# Altium footprint library CapacitorAluminumElectrolytic.PcbLib: 14 footprints
Each footprint in its own frame and in the unit in brackets; x right, y up, seen from the top. Pads: shape width x height; smd on the part's side, far side on the other; paste and mask are expansions set on the pad; w line width, h text height; cw(c..) or ccw(c..) is an arc to the next point about the centre after c.
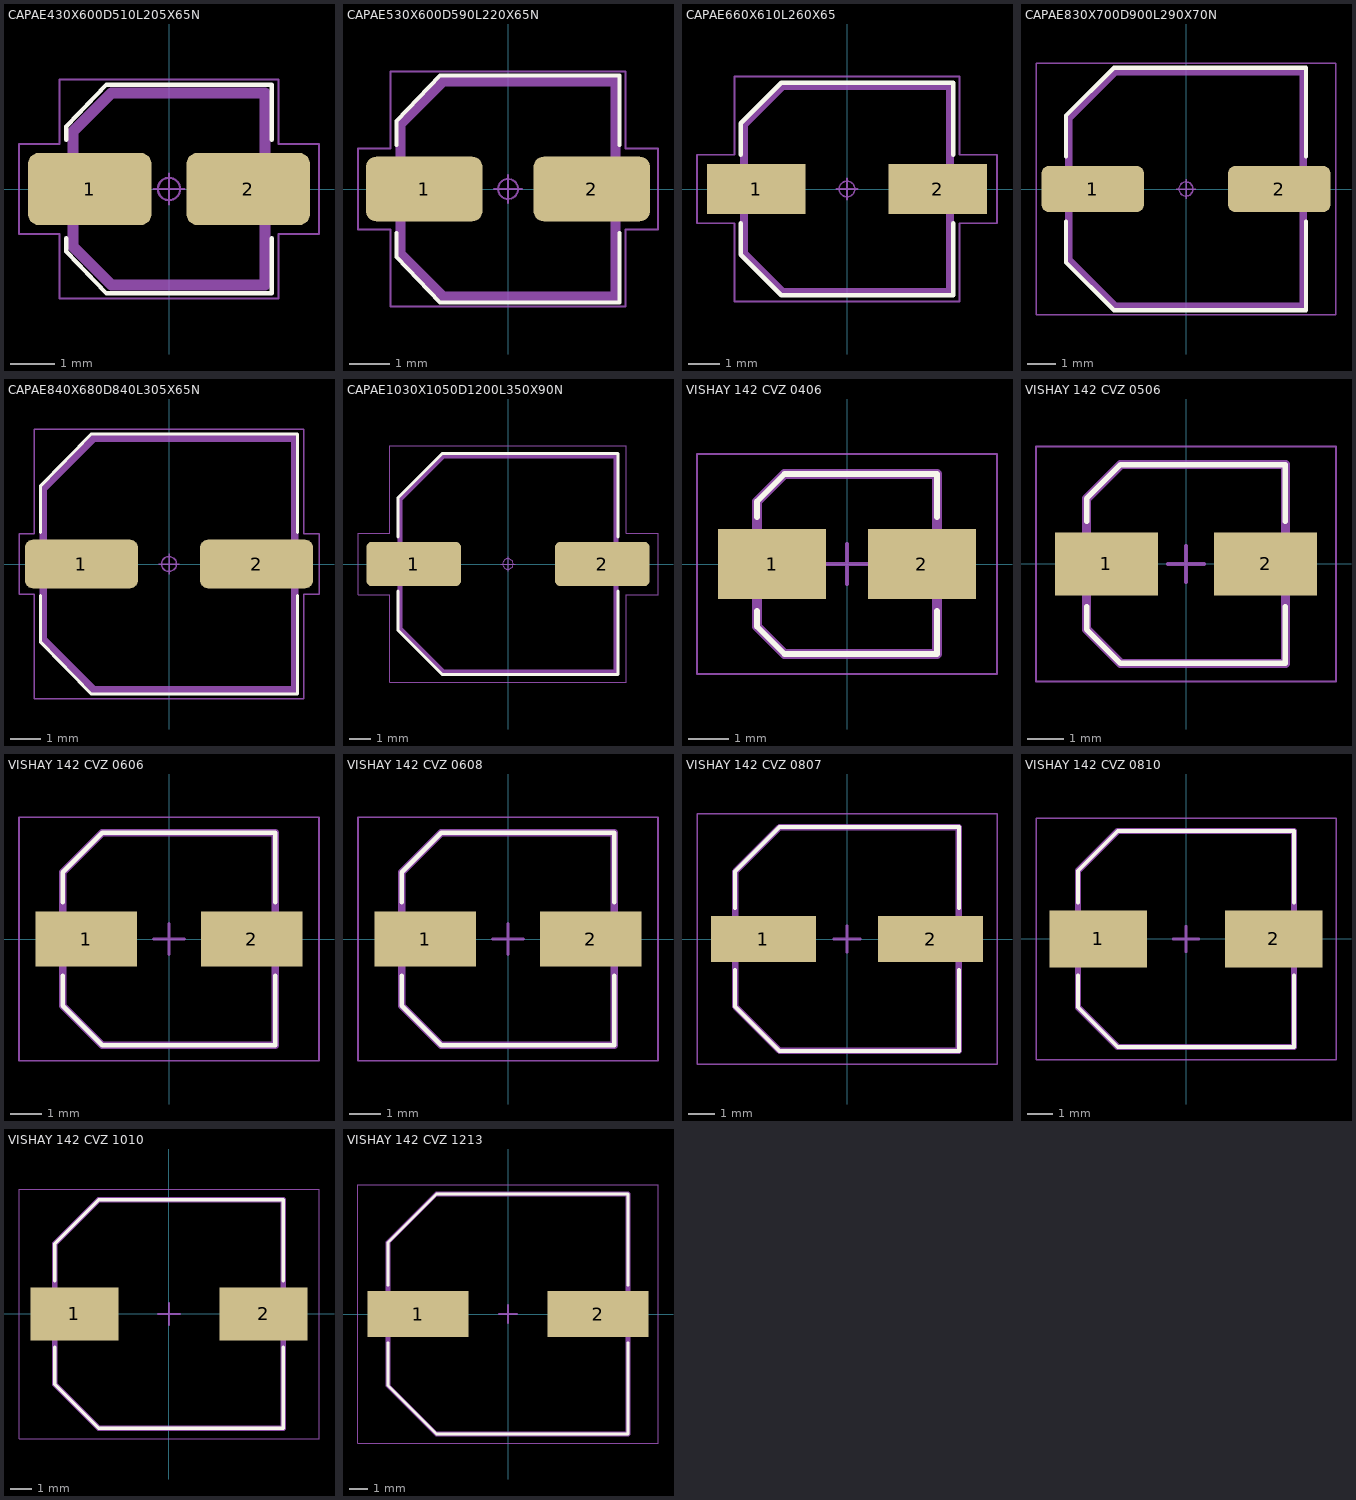
[diagram p0: the footprints below, top view; thin cyan lines are the x and y axes]

## CAPAE430X600D510L205X65N [mm] "Capacitor, Aluminum Electrolytic; 4.30 mm L X 4.30 mm W X 6.00 mm H body"
height 6
pads (2):
  rrect31% 2.77x1.62 smd: 1(-1.775,0) 2(1.775,0)
Top Overlay:
  lines w0.1: -2.3,-1.1 -2.3,-1.4 -1.4,-2.34 2.3,-2.34 2.3,-1.1 ; -2.3,1.1 -2.3,1.4 -1.4,2.34 2.3,2.34 2.3,1.1
Top Assembly:
  lines w0.25: -2.15,-1.29 -1.29,-2.15 2.15,-2.15 2.15,2.15 -1.29,2.15 -2.15,1.29 -2.15,-1.29
  text ".Designator" at -1.746,-0.381 h1.5
Top Courtyard:
  circle w0.05: c0,0 r0.25
  lines w0.05: -0.35,0 0.35,0 ; 0,-0.35 0,0.35 ; -3.36,-1.01 -3.36,1.01 -2.45,1.01 -2.45,2.45 2.45,2.45 2.45,1.01 3.36,1.01 3.36,-1.01 2.45,-1.01 2.45,-2.45 -2.45,-2.45 -2.45,-1.01 -3.36,-1.01
3D body "CAPAE430X600D510L205X65.STEP": height 6, standoff 0, extent -2.55,-2.15 2.55,2.15

## CAPAE530X600D590L220X65N [mm] "Capacitor, Aluminum Electrolytic; 5.30 mm L X 5.30 mm W X 6.00 mm H body"
height 6
pads (2):
  rrect31% 2.92x1.62 smd: 1(-2.1,0) 2(2.1,0)
Top Overlay:
  lines w0.1: -2.8,-1.1 -2.8,-1.7 -1.7,-2.84 2.8,-2.84 2.8,-1.1 ; -2.8,1.1 -2.8,1.7 -1.7,2.84 2.8,2.84 2.8,1.1
Top Assembly:
  lines w0.25: -2.7,-1.62 -1.62,-2.7 2.7,-2.7 2.7,2.7 -1.62,2.7 -2.7,1.62 -2.7,-1.62
  text ".Designator" at -2.54,-0.381 h1.5
Top Courtyard:
  circle w0.05: c0,0 r0.25
  lines w0.05: -0.35,0 0.35,0 ; 0,-0.35 0,0.35 ; -3.76,-1.01 -3.76,1.01 -2.95,1.01 -2.95,2.95 2.95,2.95 2.95,1.01 3.76,1.01 3.76,-1.01 2.95,-1.01 2.95,-2.95 -2.95,-2.95 -2.95,-1.01 -3.76,-1.01
3D body "CAPAE530X600D590L220X65.STEP": height 6, standoff 0, extent -2.95,-2.65 2.95,2.65

## CAPAE660X610L260X65 [mm] "Capacitor, Aluminum Electrolytic; 6.60 mm L X 6.60 mm W X 6.10 mm H body"
height 6.1
pads (2):
  rect 3.15x1.6 smd: 1(-2.9,0) 2(2.9,0)
Top Overlay:
  lines w0.15: -3.4,-1.1 -3.4,-2.1 -2.1,-3.4 3.4,-3.4 3.4,-1.1 ; -3.4,1.1 -3.4,2.1 -2.1,3.4 3.4,3.4 3.4,1.1
Top Assembly:
  lines w0.25: -3.3,-2.05 -3.3,2.05 -2.05,3.3 3.3,3.3 3.3,-3.3 -2.05,-3.3 -3.3,-2.05
  text ".Designator" at -2.8,-0.343 h1.5
Top Courtyard:
  circle w0.05: c0,0 r0.25
  lines w0.05: -0.35,0 0.35,0 ; 0,-0.35 0,0.35 ; -4.8,-1.1 -3.6,-1.1 -3.6,-3.6 3.6,-3.6 3.6,-1.1 4.8,-1.1 4.8,1.1 3.6,1.1 3.6,3.6 -3.6,3.6 -3.6,1.1 -4.8,1.1 -4.8,-1.1
3D body "CAPAE7866X61N.step": height 6.1, standoff -0.2, extent -3.9,-3.3 3.9,3.3

## CAPAE830X700D900L290X70N [mm] "Capacitor, Aluminum Electrolytic; 8.30 mm L X 8.30 mm W X 7.00 mm H body"
height 7
pads (2):
  rrect31% 3.62x1.63 smd: 1(-3.3,0) 2(3.3,0)
Top Overlay:
  lines w0.15: -4.25,-1.15 -4.25,-2.6 -2.55,-4.29 4.25,-4.29 4.25,-1.15 ; -4.25,1.15 -4.25,2.6 -2.55,4.29 4.25,4.29 4.25,1.15
Top Assembly:
  lines w0.25: -4.15,-2.49 -4.15,2.49 -2.49,4.15 4.15,4.15 4.15,-4.15 -2.49,-4.15 -4.15,-2.49
  text ".Designator" at -3.378,-0.339 h1.5
Top Courtyard:
  circle w0.05: c0,0 r0.25
  lines w0.05: -0.35,0 0.35,0 ; 0,-0.35 0,0.35 ; -5.31,-4.45 5.31,-4.45 5.31,4.45 -5.31,4.45 -5.31,-4.45
3D body "CAPAE830X700D900L290X70.STEP": height 7, standoff 0, extent -4.5,-4.15 4.5,4.15

## CAPAE840X680D840L305X65N [mm] "Capacitor, Aluminum Electrolytic; 8.40 mm L X 8.40 mm W X 6.80 mm H body"
height 6.8
pads (2):
  rrect31% 3.77x1.62 smd: 1(-2.925,0) 2(2.925,0)
Top Overlay:
  lines w0.1: -4.3,-1.05 -4.3,-2.6 -2.6,-4.34 4.3,-4.34 4.3,-1.05 ; -4.3,1.05 -4.3,2.6 -2.6,4.34 4.3,4.34 4.3,1.05
Top Assembly:
  lines w0.25: -4.2,-2.52 -4.2,2.52 -2.52,4.2 4.2,4.2 4.2,-4.2 -2.52,-4.2 -4.2,-2.52
  text ".Designator" at -3.175,-0.381 h1.5
Top Courtyard:
  circle w0.05: c0,0 r0.25
  lines w0.05: -0.35,0 0.35,0 ; 0,-0.35 0,0.35 ; -5.01,-1.01 -4.5,-1.01 -4.5,-4.5 4.5,-4.5 4.5,-1.01 5.01,-1.01 5.01,1.01 4.5,1.01 4.5,4.5 -4.5,4.5 -4.5,1.01 -5.01,1.01 -5.01,-1.01
3D body "CAPAE840X680D840L305X65.STEP": height 6.8, standoff 0, extent -4.2,-4.2 4.2,4.2

## CAPAE1030X1050D1200L350X90N [mm] "Capacitor, Aluminum Electrolytic; 10.30 mm L X 10.30 mm W X 10.50 mm H body"
height 10.5
pads (2):
  rrect24% 4.51x2.12 smd: 1(-4.5,0) 2(4.5,0)
Top Overlay:
  lines w0.15: -5.25,-1.3 -5.25,-3.15 -3.15,-5.265 5.25,-5.265 5.25,-1.3 ; -5.25,1.3 -5.25,3.15 -3.15,5.265 5.25,5.265 5.25,1.3
Top Assembly:
  lines w0.25: -5.15,-3.09 -5.15,3.09 -3.09,5.15 5.15,5.15 5.15,-5.15 -3.09,-5.15 -5.15,-3.09
  text ".Designator" at -4.064,-0.508 h2
Top Courtyard:
  circle w0.05: c0,0 r0.25
  lines w0.05: -0.35,0 0.35,0 ; 0,-0.35 0,0.35 ; -7.155,-1.46 -5.65,-1.46 -5.65,-5.65 5.65,-5.65 5.65,-1.46 7.155,-1.46 7.155,1.46 5.65,1.46 5.65,5.65 -5.65,5.65 -5.65,1.46 -7.155,1.46 -7.155,-1.46
3D body "CAPAE1030X1050D1200L350X90.STEP": height 10.5, standoff 0, extent -5.8,-5.15 5.8,5.15

## VISHAY 142 CVZ 0406 [mm] "VISHAY CAPAE 142 CVZ 4x4x5.7"
height 6
pads (2):
  rect 2.7x1.75 smd: 1(-1.875,0) 2(1.875,0)
Top Overlay:
  lines w0.15: -2.25,-1.175 -2.25,-1.563 -1.563,-2.25 2.25,-2.25 2.25,-1.175 ; -2.25,1.175 -2.25,1.562 -1.563,2.25 2.25,2.25 2.25,1.175
Top Assembly:
  lines w0.25: -2.25,-1.563 -2.25,1.562 -1.563,2.25 2.25,2.25 2.25,-2.25 -1.563,-2.25 -2.25,-1.563
  text ".Designator" at -3.378,-0.339 h1.5
Top Courtyard:
  lines w0.05: -3.75,-2.75 3.75,-2.75 3.75,2.75 -3.75,2.75 -3.75,-2.75
  lines w0.1: -0.5,0 0.5,0 ; 0,-0.5 0,0.5
3D body "CAPAE5345X60N.step": height 6, standoff 0, extent -2.65,-2.25 2.65,2.25

## VISHAY 142 CVZ 0506 [mm] "VISHAY CAPAE 142 CVZ 4x5x5.7"
height 6
pads (2):
  rect 2.85x1.75 smd: 1(-2.2,0) 2(2.2,0)
Top Overlay:
  lines w0.15: -2.75,-1.175 -2.75,-1.813 -1.813,-2.75 2.75,-2.75 2.75,-1.175 ; -2.75,1.175 -2.75,1.812 -1.813,2.75 2.75,2.75 2.75,1.175
Top Assembly:
  lines w0.25: -2.75,-1.813 -1.813,-2.75 2.75,-2.75 2.75,2.75 -1.813,2.75 -2.75,1.812 -2.75,-1.813
  text ".Designator" at -3.378,-0.339 h1.5
Top Courtyard:
  lines w0.05: -4.15,-3.25 -4.15,3.25 4.15,3.25 4.15,-3.25 -4.15,-3.25
  lines w0.1: -0.5,0 0.5,0 ; 0,-0.5 0,0.5
3D body "CAPAE6155X60N.step": height 6, standoff 0, extent -3.05,-2.75 3.05,2.75

## VISHAY 142 CVZ 0606 [mm] "VISHAY CAPAE 142 CVZ 6.3x6.3x5.7"
height 6
pads (2):
  rect 3.25x1.75 smd: 1(-2.65,0) 2(2.65,0)
Top Overlay:
  lines w0.15: -3.4,-1.175 -3.4,-2.138 -2.137,-3.4 3.4,-3.4 3.4,-1.175 ; -3.4,1.175 -3.4,2.137 -2.137,3.4 3.4,3.4 3.4,1.175
Top Assembly:
  lines w0.25: -3.4,-2.138 -3.4,2.137 -2.137,3.4 3.4,3.4 3.4,-3.4 -2.137,-3.4 -3.4,-2.138
  text ".Designator" at -3.378,-0.339 h1.5
Top Courtyard:
  lines w0.05: -4.8,-3.9 4.8,-3.9 4.8,3.9 -4.8,3.9 -4.8,-3.9
  lines w0.1: -0.5,0 0.5,0 ; 0,-0.5 0,0.5
3D body "CAPAE7468X60N.step": height 6, standoff -0.3, extent -3.7,-3.4 3.7,3.4

## VISHAY 142 CVZ 0608 [mm] "VISHAY CAPAE 142 CVZ 6.3x6.3x7.7"
height 8
pads (2):
  rect 3.25x1.75 smd: 1(-2.65,0) 2(2.65,0)
Top Overlay:
  lines w0.15: -3.4,-1.175 -3.4,-2.138 -2.137,-3.4 3.4,-3.4 3.4,-1.175 ; -3.4,1.175 -3.4,2.137 -2.137,3.4 3.4,3.4 3.4,1.175
Top Assembly:
  lines w0.25: -3.4,-2.138 -2.137,-3.4 3.4,-3.4 3.4,3.4 -2.137,3.4 -3.4,2.137 -3.4,-2.138
  text ".Designator" at -3.378,-0.339 h1.5
Top Courtyard:
  lines w0.05: -4.8,-3.9 -4.8,3.9 4.8,3.9 4.8,-3.9 -4.8,-3.9
  lines w0.1: -0.5,0 0.5,0 ; 0,-0.5 0,0.5
3D body "CAPAE7468X80N.step": height 8, standoff 0, extent -3.7,-3.4 3.7,3.4

## VISHAY 142 CVZ 0807 [mm] "VISHAY CAPAE 142 CVZ 8x8x6.5"
height 6.8
pads (2):
  rect 4x1.75 smd: 1(-3.175,0) 2(3.175,0)
Top Overlay:
  lines w0.15: -4.25,-1.175 -4.25,-2.562 -2.562,-4.25 4.25,-4.25 4.25,-1.175 ; -4.25,1.175 -4.25,2.562 -2.562,4.25 4.25,4.25 4.25,1.175
Top Assembly:
  lines w0.25: -4.25,-2.562 -4.25,2.562 -2.562,4.25 4.25,4.25 4.25,-4.25 -2.562,-4.25 -4.25,-2.562
  text ".Designator" at -3.378,-0.339 h1.5
Top Courtyard:
  lines w0.05: -5.7,-4.75 5.7,-4.75 5.7,4.75 -5.7,4.75 -5.7,-4.75
  lines w0.1: -0.5,0 0.5,0 ; 0,-0.5 0,0.5
3D body "CAPAE9285X68N.step": height 6.8, standoff -1.2, extent -4.6,-4.25 4.6,4.25

## VISHAY 142 CVZ 0810 [mm] "VISHAY CAPAE 142 CVZ 8x8x10"
height 10.5
pads (2):
  rect 3.85x2.25 smd: 1(-3.45,0) 2(3.45,0)
Top Overlay:
  lines w0.15: -4.25,-1.425 -4.25,-2.688 -2.688,-4.25 4.25,-4.25 4.25,-1.425 ; -4.25,1.425 -4.25,2.687 -2.688,4.25 4.25,4.25 4.25,1.425
Top Assembly:
  lines w0.25: -4.25,-2.688 -4.25,2.687 -2.688,4.25 4.25,4.25 4.25,-4.25 -2.688,-4.25 -4.25,-2.688
  text ".Designator" at -3.378,-0.339 h1.5
Top Courtyard:
  lines w0.05: -5.9,-4.75 5.9,-4.75 5.9,4.75 -5.9,4.75 -5.9,-4.75
  lines w0.1: -0.5,0 0.5,0 ; 0,-0.5 0,0.5
3D body "CAPAE9285X105N.step": height 10.5, standoff 0, extent -4.6,-4.25 4.6,4.25

## VISHAY 142 CVZ 1010 [mm] "VISHAY CAPAE 142 CVZ 10x10x10"
height 10.5
pads (2):
  rect 4.05x2.45 smd: 1(-4.35,0) 2(4.35,0)
Top Overlay:
  lines w0.15: -5.25,-1.525 -5.25,-3.238 -3.237,-5.25 5.25,-5.25 5.25,-1.525 ; -5.25,1.525 -5.25,3.237 -3.237,5.25 5.25,5.25 5.25,1.525
Top Assembly:
  lines w0.25: -5.25,-3.238 -5.25,3.237 -3.237,5.25 5.25,5.25 5.25,-5.25 -3.237,-5.25 -5.25,-3.238
  text ".Designator" at -3.378,-0.339 h1.5
Top Courtyard:
  lines w0.05: -6.9,-5.75 6.9,-5.75 6.9,5.75 -6.9,5.75 -6.9,-5.75
  lines w0.1: -0.5,0 0.5,0 ; 0,-0.5 0,0.5
3D body "CAPAE112105X105N.step": height 10.5, standoff 0, extent -5.6,-5.25 5.6,5.25

## VISHAY 142 CVZ 1213 [mm] "VISHAY CAPAE 142 CVZ 12.5x12.5x12.5"
height 14
pads (2):
  rect 5.55x2.55 smd: 1(-4.95,0) 2(4.95,0)
Top Overlay:
  lines w0.15: -6.6,-1.575 -6.6,-3.937 -3.938,-6.6 6.6,-6.6 6.6,-1.575 ; -6.6,1.575 -6.6,3.938 -3.938,6.6 6.6,6.6 6.6,1.575
Top Assembly:
  lines w0.25: -6.6,-3.937 -3.938,-6.6 6.6,-6.6 6.6,6.6 -3.938,6.6 -6.6,3.938 -6.6,-3.937
  text ".Designator" at -3.378,-0.339 h1.5
Top Courtyard:
  lines w0.05: -8.25,-7.1 -8.25,7.1 8.25,7.1 8.25,-7.1 -8.25,-7.1
  lines w0.1: -0.5,0 0.5,0 ; 0,-0.5 0,0.5
3D body "CAPAE139132X140N.step": height 14, standoff 0, extent -6.95,-6.6 6.95,6.6